# Altium footprint library Header Lib.PcbLib: 2 footprints
Each footprint in its own frame and in the unit in brackets; x right, y up, seen from the top. Pads: shape width x height; smd on the part's side, far side on the other; paste and mask are expansions set on the pad; w line width, h text height; cw(c..) or ccw(c..) is an arc to the next point about the centre after c.
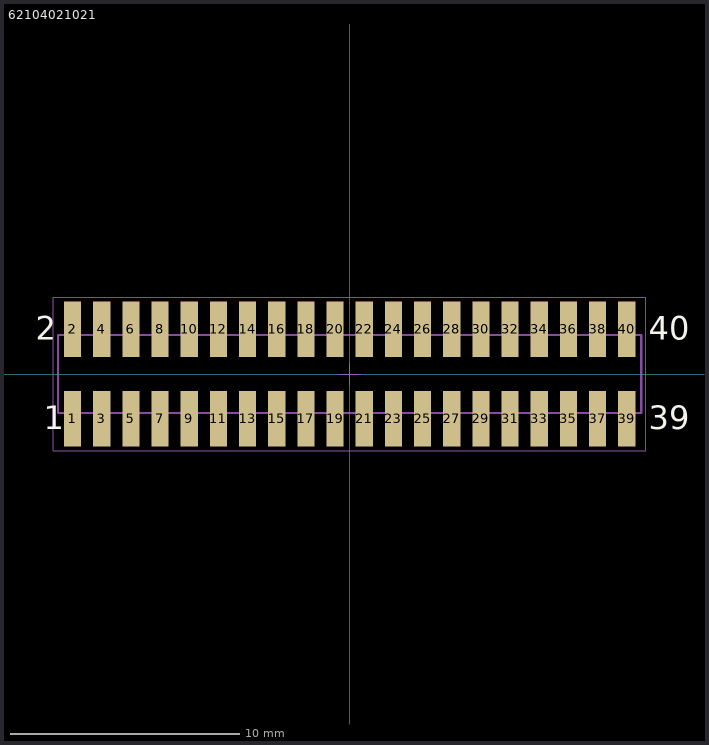
[diagram p0: the footprints below, top view; thin cyan lines are the x and y axes]

## 62104021021 [mm] "Pin Header, pitch 1.27 mm, SMD, Vertical, dual row, 40p"
height 6.55
pads (40):
  rect 0.75x2.4 smd: 1(-12.065,-1.95) 2(-12.065,1.95) 3(-10.795,-1.95) 4(-10.795,1.95) 5(-9.525,-1.95) 6(-9.525,1.95) 7(-8.255,-1.95) 8(-8.255,1.95) 9(-6.985,-1.95) 10(-6.985,1.95) 11(-5.715,-1.95) 12(-5.715,1.95) 13(-4.445,-1.95) 14(-4.445,1.95) 15(-3.175,-1.95) 16(-3.175,1.95) 17(-1.905,-1.95) 18(-1.905,1.95) 19(-0.635,-1.95) 20(-0.635,1.95) 21(0.635,-1.95) 22(0.635,1.95) 23(1.905,-1.95) 24(1.905,1.95) 25(3.175,-1.95) 26(3.175,1.95) 27(4.445,-1.95) 28(4.445,1.95) 29(5.715,-1.95) 30(5.715,1.95) 31(6.985,-1.95) 32(6.985,1.95) 33(8.255,-1.95) 34(8.255,1.95) 35(9.525,-1.95) 36(9.525,1.95) 37(10.795,-1.95) 38(10.795,1.95) 39(12.065,-1.95) 40(12.065,1.95)
Top Overlay:
  text "2" at -13.669,1.5 h1.02
  text "1" at -13.33,-2.4 h1.02
  text "39" at 13.03,-2.4 h1.02
  text "40" at 13.03,1.5 h1.02
Top Assembly:
  lines w0.1: -12.265,-1.7 -12.265,-2.5 -11.865,-2.5 -11.865,-1.7 ; -12.265,1.7 -12.265,2.5 -11.865,2.5 -11.865,1.7 ; -10.995,-1.7 -10.995,-2.5 -10.595,-2.5 -10.595,-1.7 ; -10.995,1.7 -10.995,2.5 -10.595,2.5 -10.595,1.7 ; -9.725,-1.7 -9.725,-2.5 -9.325,-2.5 -9.325,-1.7 ; -9.725,1.7 -9.725,2.5 -9.325,2.5 -9.325,1.7 ; -8.455,-1.7 -8.455,-2.5 -8.055,-2.5 -8.055,-1.7 ; -8.455,1.7 -8.455,2.5 -8.055,2.5 -8.055,1.7 ; -7.185,-1.7 -7.185,-2.5 -6.785,-2.5 -6.785,-1.7 ; -7.185,1.7 -7.185,2.5 -6.785,2.5 -6.785,1.7 ; -5.915,-1.7 -5.915,-2.5 -5.515,-2.5 -5.515,-1.7 ; -5.915,1.7 -5.915,2.5 -5.515,2.5 -5.515,1.7 ; -4.645,-1.7 -4.645,-2.5 -4.245,-2.5 -4.245,-1.7 ; -4.645,1.7 -4.645,2.5 -4.245,2.5 -4.245,1.7 ; -3.375,-1.7 -3.375,-2.5 -2.975,-2.5 -2.975,-1.7 ; -3.375,1.7 -3.375,2.5 -2.975,2.5 -2.975,1.7 ; -2.105,-1.7 -2.105,-2.5 -1.705,-2.5 -1.705,-1.7 ; -2.105,1.7 -2.105,2.5 -1.705,2.5 -1.705,1.7 ; -0.835,-1.7 -0.835,-2.5 -0.435,-2.5 -0.435,-1.7 ; -0.835,1.7 -0.835,2.5 -0.435,2.5 -0.435,1.7 ; 0.435,-1.7 0.435,-2.5 0.835,-2.5 0.835,-1.7 ; 0.435,1.7 0.435,2.5 0.835,2.5 0.835,1.7 ; 1.705,-1.7 1.705,-2.5 2.105,-2.5 2.105,-1.7 ; 1.705,1.7 1.705,2.5 2.105,2.5 2.105,1.7 ; 2.975,-1.7 2.975,-2.5 3.375,-2.5 3.375,-1.7 ; 2.975,1.7 2.975,2.5 3.375,2.5 3.375,1.7 ; 4.245,-1.7 4.245,-2.5 4.645,-2.5 4.645,-1.7 ; 4.245,1.7 4.245,2.5 4.645,2.5 4.645,1.7 ; 5.515,-1.7 5.515,-2.5 5.915,-2.5 5.915,-1.7 ; 5.515,1.7 5.515,2.5 5.915,2.5 5.915,1.7 ; 6.785,-1.7 6.785,-2.5 7.185,-2.5 7.185,-1.7 ; 6.785,1.7 6.785,2.5 7.185,2.5 7.185,1.7 ; 8.055,-1.7 8.055,-2.5 8.455,-2.5 8.455,-1.7 ; 8.055,1.7 8.055,2.5 8.455,2.5 8.455,1.7 ; 9.325,-1.7 9.325,-2.5 9.725,-2.5 9.725,-1.7 ; 9.325,1.7 9.325,2.5 9.725,2.5 9.725,1.7 ; 10.595,-1.7 10.595,-2.5 10.995,-2.5 10.995,-1.7 ; 10.595,1.7 10.595,2.5 10.995,2.5 10.995,1.7 ; 11.865,-1.7 11.865,-2.5 12.265,-2.5 12.265,-1.7 ; 11.865,1.7 11.865,2.5 12.265,2.5 12.265,1.7 ; -12.7,-1.7 -12.7,1.7 12.7,1.7 12.7,-1.7 -12.7,-1.7
  text ".Designator" at -7.498,-0.5 h1.5
Top 3D Body:
  lines w0.1: -12.265,-1.7 -12.265,-2.5 -11.865,-2.5 -11.865,-1.7 ; -12.265,1.7 -12.265,2.5 -11.865,2.5 -11.865,1.7 ; -10.995,-1.7 -10.995,-2.5 -10.595,-2.5 -10.595,-1.7 ; -10.995,1.7 -10.995,2.5 -10.595,2.5 -10.595,1.7 ; -9.725,-1.7 -9.725,-2.5 -9.325,-2.5 -9.325,-1.7 ; -9.725,1.7 -9.725,2.5 -9.325,2.5 -9.325,1.7 ; -8.455,-1.7 -8.455,-2.5 -8.055,-2.5 -8.055,-1.7 ; -8.455,1.7 -8.455,2.5 -8.055,2.5 -8.055,1.7 ; -7.185,-1.7 -7.185,-2.5 -6.785,-2.5 -6.785,-1.7 ; -7.185,1.7 -7.185,2.5 -6.785,2.5 -6.785,1.7 ; -5.915,-1.7 -5.915,-2.5 -5.515,-2.5 -5.515,-1.7 ; -5.915,1.7 -5.915,2.5 -5.515,2.5 -5.515,1.7 ; -4.645,-1.7 -4.645,-2.5 -4.245,-2.5 -4.245,-1.7 ; -4.645,1.7 -4.645,2.5 -4.245,2.5 -4.245,1.7 ; -3.375,-1.7 -3.375,-2.5 -2.975,-2.5 -2.975,-1.7 ; -3.375,1.7 -3.375,2.5 -2.975,2.5 -2.975,1.7 ; -2.105,-1.7 -2.105,-2.5 -1.705,-2.5 -1.705,-1.7 ; -2.105,1.7 -2.105,2.5 -1.705,2.5 -1.705,1.7 ; -0.835,-1.7 -0.835,-2.5 -0.435,-2.5 -0.435,-1.7 ; -0.835,1.7 -0.835,2.5 -0.435,2.5 -0.435,1.7 ; 0.435,-1.7 0.435,-2.5 0.835,-2.5 0.835,-1.7 ; 0.435,1.7 0.435,2.5 0.835,2.5 0.835,1.7 ; 1.705,-1.7 1.705,-2.5 2.105,-2.5 2.105,-1.7 ; 1.705,1.7 1.705,2.5 2.105,2.5 2.105,1.7 ; 2.975,-1.7 2.975,-2.5 3.375,-2.5 3.375,-1.7 ; 2.975,1.7 2.975,2.5 3.375,2.5 3.375,1.7 ; 4.245,-1.7 4.245,-2.5 4.645,-2.5 4.645,-1.7 ; 4.245,1.7 4.245,2.5 4.645,2.5 4.645,1.7 ; 5.515,-1.7 5.515,-2.5 5.915,-2.5 5.915,-1.7 ; 5.515,1.7 5.515,2.5 5.915,2.5 5.915,1.7 ; 6.785,-1.7 6.785,-2.5 7.185,-2.5 7.185,-1.7 ; 6.785,1.7 6.785,2.5 7.185,2.5 7.185,1.7 ; 8.055,-1.7 8.055,-2.5 8.455,-2.5 8.455,-1.7 ; 8.055,1.7 8.055,2.5 8.455,2.5 8.455,1.7 ; 9.325,-1.7 9.325,-2.5 9.725,-2.5 9.725,-1.7 ; 9.325,1.7 9.325,2.5 9.725,2.5 9.725,1.7 ; 10.595,-1.7 10.595,-2.5 10.995,-2.5 10.995,-1.7 ; 10.595,1.7 10.595,2.5 10.995,2.5 10.995,1.7 ; 11.865,-1.7 11.865,-2.5 12.265,-2.5 12.265,-1.7 ; 11.865,1.7 11.865,2.5 12.265,2.5 12.265,1.7 ; -12.7,-1.7 12.7,-1.7 12.7,1.7 -12.7,1.7 -12.7,-1.7
Top Courtyard:
  lines w0.05: -0.5,0 0.5,0 ; 0,-0.5 0,0.5 ; -12.9,-3.35 12.9,-3.35 12.9,3.35 -12.9,3.35 -12.9,-3.35
3D body "62104021021.stp": height 5.9, standoff -0.01, extent -12.7,-2.5 12.7,2.5

## PCBComponent_1 [mm]